# Altium schematic symbol library STM32F051C6Breakout.SchLib: 4 symbols
Pins are listed as number, name and electrical type; pins without a type are passive.

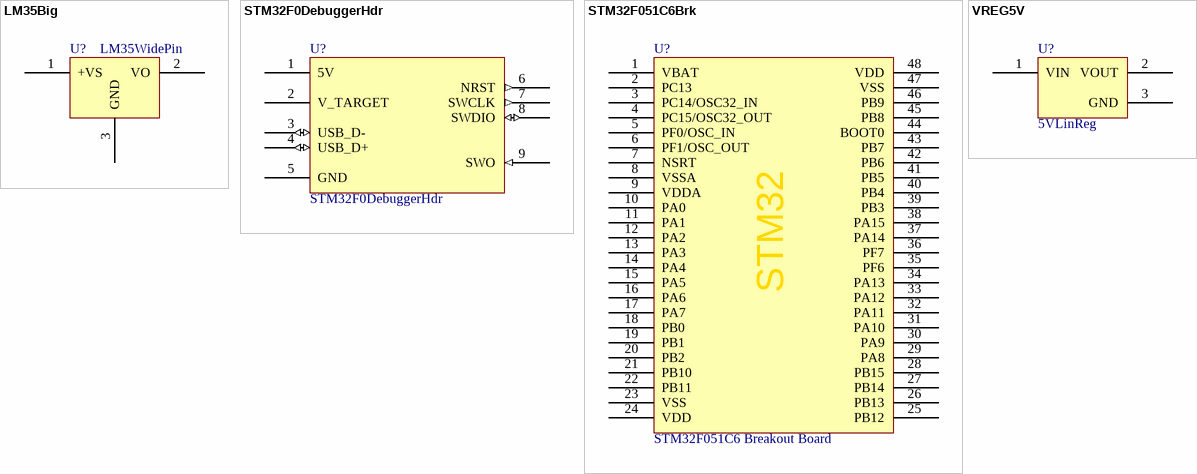
[diagram p0: symbols LM35Big to VREG5V]

## LM35Big
designator U?, comment LM35WidePin
footprint TO-92Wide
pins: 1 +VS, 2 VO, 3 GND

## STM32F0DebuggerHdr
designator U?
footprint STM32F051C6_DbgrHdr
pins: 1 5V, 2 V_TARGET, 3 USB_D- (io), 4 USB_D+ (io), 5 GND, 6 NRST (out), 7 SWCLK (out), 8 SWDIO (io), 9 SWO (in)

## STM32F051C6Brk
designator U?, comment STM32F051C6 Breakout Board
footprint STM32F051C6BreakoutBoard
pins: 1 VBAT, 2 PC13, 3 PC14/OSC32_IN, 4 PC15/OSC32_OUT, 5 PF0/OSC_IN, 6 PF1/OSC_OUT, 7 NSRT, 8 VSSA, 9 VDDA, 10 PA0, 11 PA1, 12 PA2, 13 PA3, 14 PA4, 15 PA5, 16 PA6, 17 PA7, 18 PB0, 19 PB1, 20 PB2, 21 PB10, 22 PB11, 23 VSS, 24 VDD, 25 PB12, 26 PB13, 27 PB14, 28 PB15, 29 PA8, 30 PA9, 31 PA10, 32 PA11, 33 PA12, 34 PA13, 35 PF6, 36 PF7, 37 PA14, 38 PA15, 39 PB3, 40 PB4, 41 PB5, 42 PB6, 43 PB7, 44 BOOT0, 45 PB8, 46 PB9, 47 VSS, 48 VDD
text: STM32

## VREG5V
designator U?, comment 5VLinReg
MCP
footprint TO-92Wide
pins: 1 VIN, 2 VOUT, 3 GND